# EAGLE library part SBH41-NBPB-D07-SP (library con-sullins)
HEADER - Vertical, Shrouded
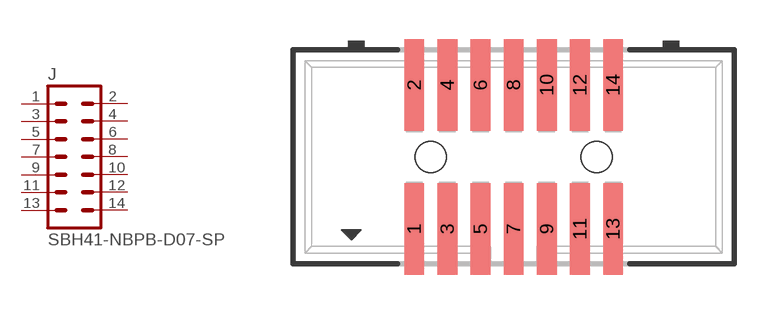
[diagram p44: symbol with the pads of SBH41-NBPB-D07-SP; footprint SBH41-NBPB-D07-SP]

Designator prefix J

## SBH41-NBPB-D07-SP  [SBH41-NBPB-D07-SP]
1  1  pas
2  2  pas
3  3  pas
4  4  pas
5  5  pas
6  6  pas
7  7  pas
8  8  pas
9  9  pas
10  10  pas
11  11  pas
12  12  pas
13  13  pas
14  14  pas

## Footprint SBH41-NBPB-D07-SP (pad centres in mm)
CONNECTOR HEADER 0.05" pitch
smd 0.762 x 3.505: 1 -3.81,-2.756; 2 -3.81,2.756; 3 -2.54,-2.756; 4 -2.54,2.756; 5 -1.27,-2.756; 6 -1.27,2.756; 7 0,-2.756; 8 0,2.756; 9 1.27,-2.756; 10 1.27,2.756; 11 2.54,-2.756; 12 2.54,2.756; 13 3.81,-2.756; 14 3.81,2.756
hole 1.194 at -3.175,0
hole 1.194 at 3.175,0